# EAGLE library part CONNECTOR-8_?_* (library HyTechDevices_temp)
8 Pin Connector
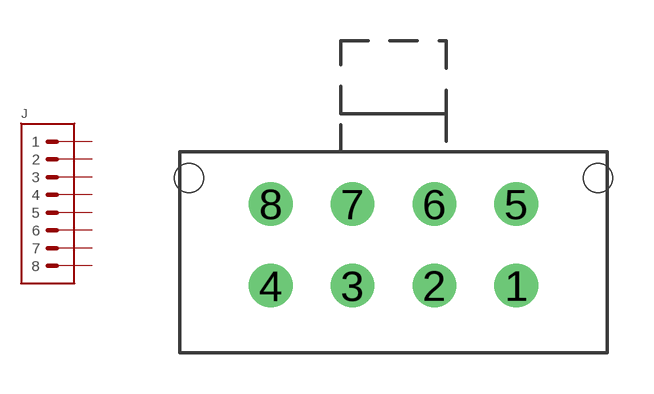
[diagram p1: symbol with the pads of MOLEX_MICROFIT_PTH_VERTICAL_08_DUAL; footprint MOLEX_MICROFIT_PTH_VERTICAL_08_DUAL]

Designator prefix J

## CONNECTOR-8_MF_T_V_ (MANUFACTURER: MOLEX; MPN: 430450814)  [MOLEX_MICROFIT_PTH_VERTICAL_08_DUAL]
1  1  pas
2  2  pas
3  3  pas
4  4  pas
5  5  pas
6  6  pas
7  7  pas
8  8  pas

## Footprint MOLEX_MICROFIT_PTH_VERTICAL_08_DUAL (pad centres in mm)
8 Pin Micro-Fit Vertical Header, Through-Hole, Dual Row Part <https://www.molex.com/molex/products/part-detail/pcb_headers/0430450814> Footprint <https://www.molex.com/pdm_docs/sd/430450814_sd.pdf> Plug Size <https://www.molex.com/pdm_docs/sd/430250800_sd.pdf>
drill 1.067: 1 4.496,-2.997; 2 1.499,-2.997; 3 -1.499,-2.997; 4 -4.496,-2.997; 5 4.496,0; 6 1.499,0; 7 -1.499,0; 8 -4.496,0
hole 1.067 at 7.493,0.94
hole 1.067 at -7.493,0.94